# Altium schematic symbol library CONN2x13.Schlib: 1 symbol
Pins are listed as number, name and electrical type; pins without a type are passive.

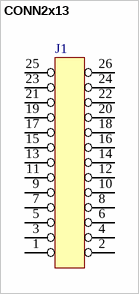
[diagram p0: symbol CONN2x13]

## CONN2x13
designator J1
Connector, 2x13
pins: 1 VCC, 2 VCC, 3 VCC, 4 VCC, 5, 6, 7, 8, 9, 10, 11, 12, 13, 14, 15, 16, 17, 18, 19, 20, 21, 22, 23, 24, 25, 26
1 alternate drawing of the same symbol